# Altium schematic symbol library KwantLib.SchLib: 323 symbols (part 3 of 3)
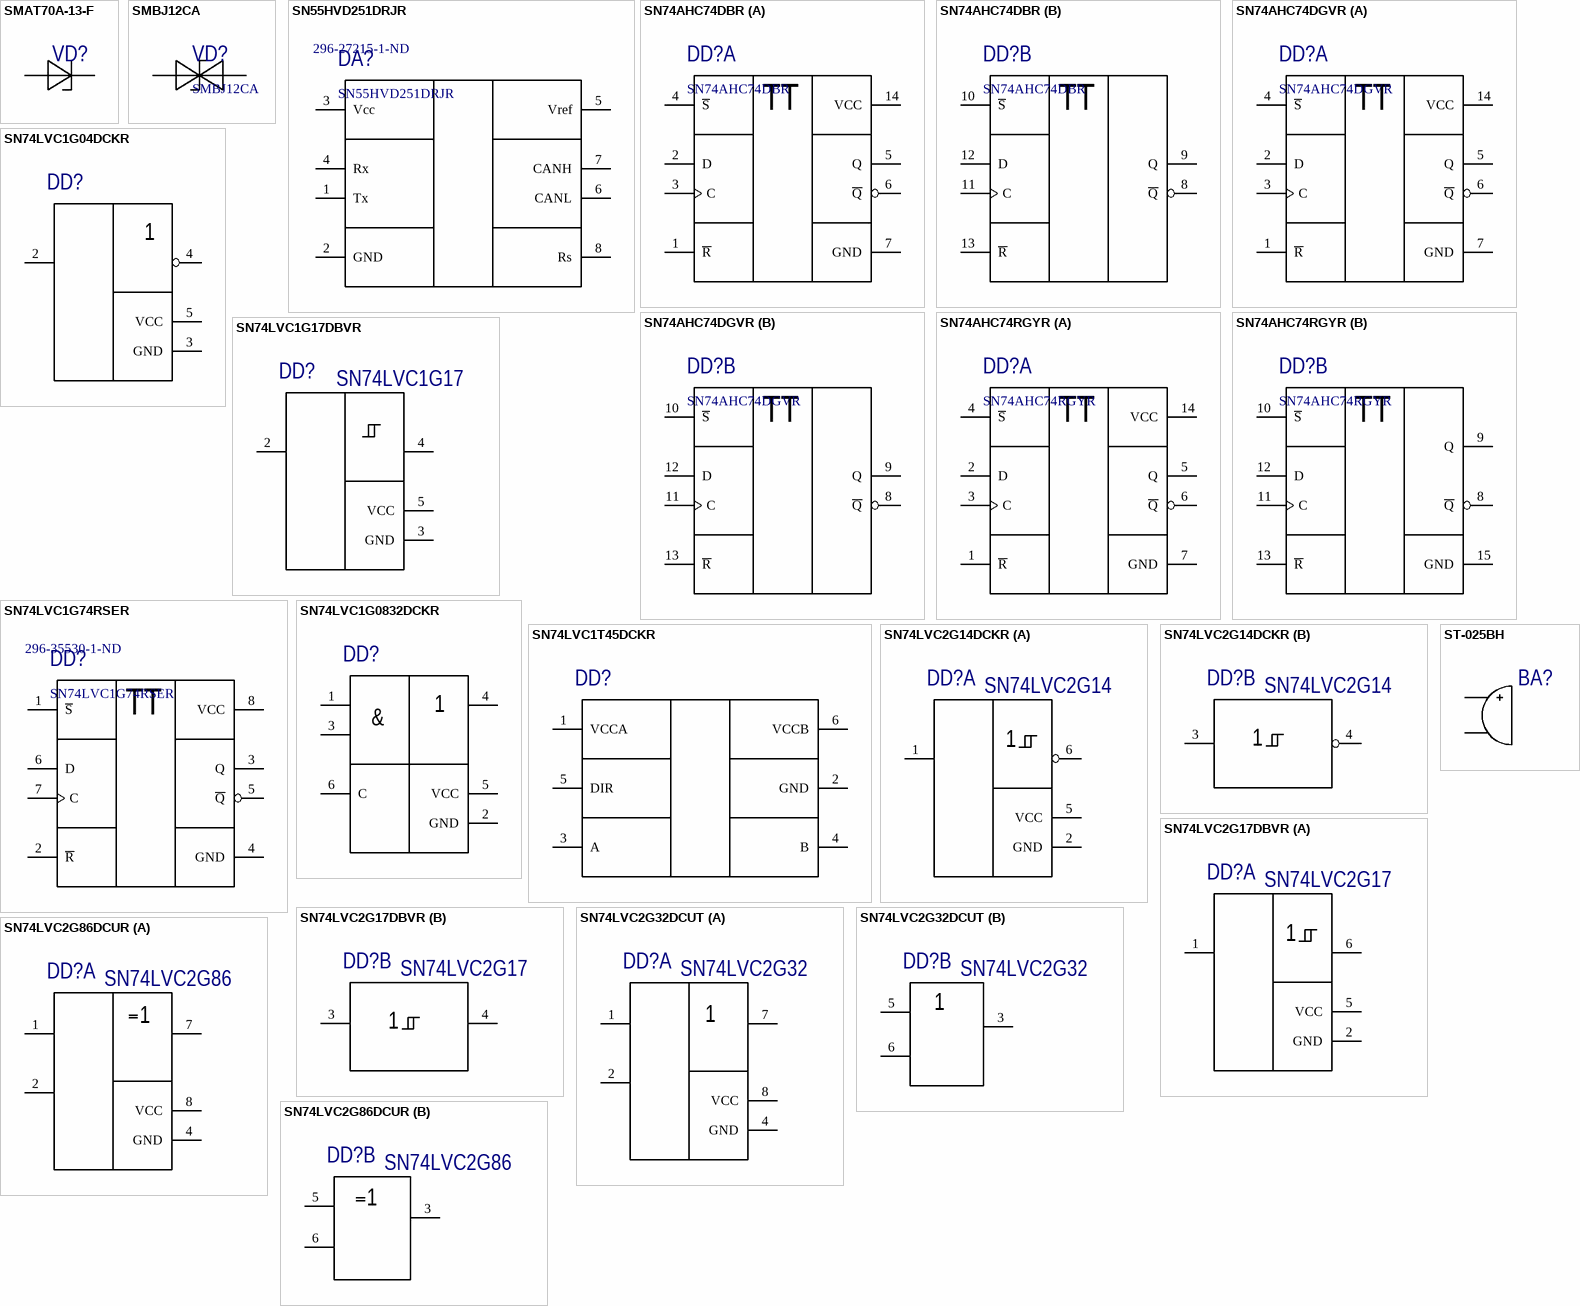
[diagram p18: symbols SMAT70A-13-F to ST-025BH]

## SN74LVC1G04DCKR
designator DD?  (value not drawn)
Invertor Gate; PartNo: SN74LVC1G04DCKR; Supplier 1: Digi-Key; Supplier Part Number 1: 296-11600-1-ND
footprint SOT65P210X110-5N (SOT23, 5-Leads, Body 2.00x2.10mm, Pitch 0.65mm, IPC Medium Density)
pins: 2 A, 3 GND (power), 4 Y, 5 VCC
text: 1

## SN74LVC1G17DBVR
designator DD?, comment SN74LVC1G17
Single Schmitt-Trigger Buffer; PartNo: SN74LVC1G17DBVR; Supplier 1: Digi-Key; Supplier Part Number 1: 296-11933-1-ND
footprint SOT95P280X145-5N (SOT23, 5-Leads, Body 2.90x2.80mm, Pitch 0.95mm, IPC Medium Density)
pins: 2 A, 3 GND (power), 4 Y, 5 VCC

## SN74LVC1G74RSER
designator DD?  Supplier Part Number 1: 296-35530-1-ND
Positive-Edge-Triggered D-Type Flip-Flop; PartNo: *; Supplier 1: Digi-Key
footprint QFN50P150X150X60-8N (QFN, 8-Leads, Body 1.50x1.50mm, Pitch 0.50mm, IPC Medium Density)
pins: 1 ~{S}, 2 ~{R}, 3 Q, 4 GND, 5 ~{Q}, 6 D, 7 C, 8 VCC
text: TT

## SN74LVC1G0832DCKR
designator DD?  (value not drawn)
Single 3-Input Positive AND-OR Gate; PartNo: SN74LVC1G0832DCKR; Supplier 1: Digi-Key; Supplier Part Number 1: 296-18754-1-ND
footprint SOT65P210X100-6N (SOT323, 6-Leads, Body 2.00x2.10mm, Pitch 0.65mm, IPC Medium Density)
pins: 1 A, 2 GND, 3 B, 4 Y, 5 VCC, 6 C
text: &

## SN74LVC1T45DCKR
designator DD?  (value not drawn)
1-bit bidirectional level shifter; PartNo: SN74LVC1T45DCKR; Supplier 1: Digi-Key; Supplier Part Number 1: 296-16844-1-ND
footprint SOT65P210X100-6N (SOT323, 6-Leads, Body 2.00x2.10mm, Pitch 0.65mm, IPC Medium Density)
pins: 1 VCCA, 2 GND, 3 A, 4 B, 5 DIR, 6 VCCB

## SN74LVC2G14DCKR
designator DD?, comment SN74LVC2G14
Dual Inverted Schmitt-Trigger Buffer; PartNo: SN74LVC2G14DCKR; Supplier 1: Digi-Key; Supplier Part Number 1: 296-13011-1-ND
footprint SOT65P210X100-6N (SC70-6, SOT323, 6-Leads, Body 2.00x2.10mm, Pitch 0.65mm, IPC Medium Density)
part A pins: 1 A, 2 GND (power), 5 VCC, 6 Y
part B pins: 3 A, 4 Y

## SN74LVC2G17DBVR
designator DD?, comment SN74LVC2G17
Dual Schmitt-Trigger Buffer; PartNo: SN74LVC2G17DBVR; Supplier 1: Digi-Key; Supplier Part Number 1: 296-13012-1-ND
footprint SOT95P280X145-6N (SOT23, 6-Leads, Body 2.92x2.80mm, Pitch 0.95mm, IPC Medium Density)
part A pins: 1 A, 2 GND (power), 5 VCC, 6 Y
part B pins: 3 A, 4 Y

## SN74LVC2G32DCUT
designator DD?, comment SN74LVC2G32
Dual 2-Input OR Gate; PartNo: SN74LVC2G32DCUT; Supplier 1: Digi-Key; Supplier Part Number 1: 296-32324-1-ND
footprint TSSOP50P310X90-8N (TSSOP, 8-Leads, Body 2.00x2.30mm, Pitch 0.50mm, IPC Medium Density)
part A pins: 1 A, 2 B, 4 GND (power), 7, 8 VCC (power)
part B pins: 3 Y, 5 A, 6 B

## SN74LVC2G86DCUR
designator DD?, comment SN74LVC2G86
Dual 2-Input XOR Gate; PartNo: SN74LVC2G86DCUR; Supplier 1: Digi-Key; Supplier Part Number 1: 296-13275-1-ND
footprint TSSOP50P310X90-8N (TSSOP, 8-Leads, Body 2.00x2.30mm, Pitch 0.50mm, IPC Medium Density)
part A pins: 1 A, 2 B, 4 GND (power), 7, 8 VCC (power)
part B pins: 3 Y, 5 A, 6 B

## ST-025BH
designator BA?  (value not drawn)
AUDIO MAGNETIC XDCR 2-4V SMD; Manufacturer: Soberton; Frequency: 2.7kHz; Operating Supply Current: 100mA; Washable: No; Supplier 1: Digi-Key; Manufacturer Part Number: ST-025BH; Stock 1: 6053; Pricing 1: 1=2.2, 10=1.746, 25=1.5892, 50=1.4876, 100=1.386, 250=1.2659, 500=1.1735, 1000=1.155 (USD); Mount: Surface Mount; Min Operating Temperature: -30°C; Max Operating Temperature: 85°C; Package Quantity: 1; Packaging: Cut Tape; Termination: Solder; Sensing Method: Magnetic; Length: 7.5mm; Height: 2.5mm; Width: 7.5mm; ComponentLink1URL: http://cirlw3yrzg4afc1x47lv2k18.wpengine.netdna-cdn.com/wp-content/uploads/2016/10/ST-025BH-Rev-A_2017.pdf?src-supplier=Digi-Key; ComponentLink1Description: http://cirlw3yrzg4afc1x47lv2k18.wpengine.netdna-cdn.com/wp-content/uploads/2016/10/ST-025BH-Rev-A_2017.pdf?src-supplier=Digi-Key; Supplier Part Number 1: 433-1087-1-ND
footprint ST-025BH (Sobertonic Magnetic Buzzer)
pins: 1, 2

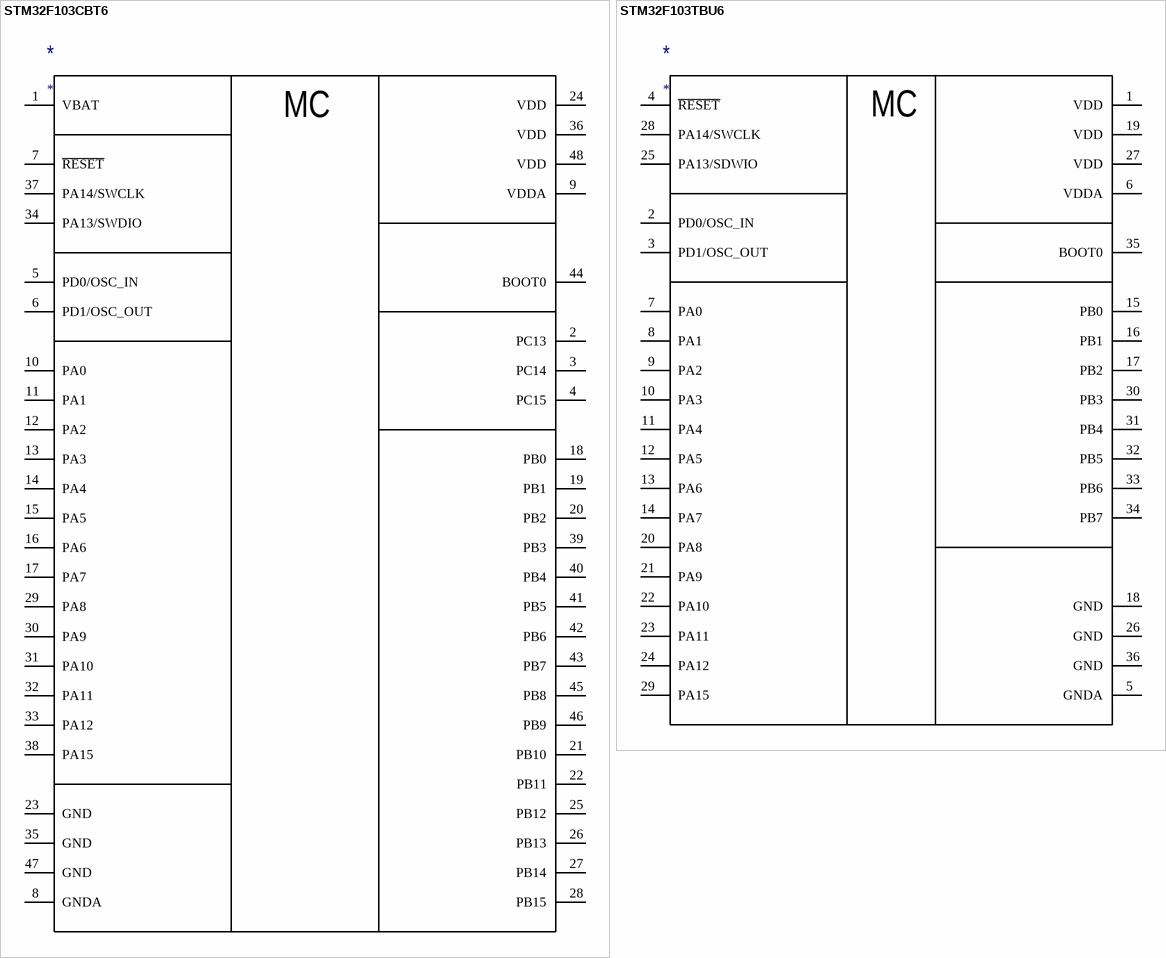
[diagram p10: symbols STM32F103CBT6 to STM32F103TBU6]

## STM32F103CBT6
designator *
pins: 1 VBAT, 2 PC13, 3 PC14, 4 PC15, 5 PD0/OSC_IN, 6 PD1/OSC_OUT, 7 ~{RESET}, 8 GNDA, 9 VDDA, 10 PA0, 11 PA1, 12 PA2, 13 PA3, 14 PA4, 15 PA5, 16 PA6, 17 PA7, 18 PB0, 19 PB1, 20 PB2, 21 PB10, 22 PB11, 23 GND, 24 VDD, 25 PB12, 26 PB13, 27 PB14, 28 PB15, 29 PA8, 30 PA9, 31 PA10, 32 PA11, 33 PA12, 34 PA13/SWDIO, 35 GND, 36 VDD, 37 PA14/SWCLK, 38 PA15, 39 PB3, 40 PB4, 41 PB5, 42 PB6, 43 PB7, 44 BOOT0, 45 PB8, 46 PB9, 47 GND, 48 VDD
text: MC

## STM32F103TBU6
designator *
pins: 1 VDD, 2 PD0/OSC_IN, 3 PD1/OSC_OUT, 4 ~{RESET}, 5 GNDA, 6 VDDA, 7 PA0, 8 PA1, 9 PA2, 10 PA3, 11 PA4, 12 PA5, 13 PA6, 14 PA7, 15 PB0, 16 PB1, 17 PB2, 18 GND, 19 VDD, 20 PA8, 21 PA9, 22 PA10, 23 PA11, 24 PA12, 25 PA13/SDWIO, 26 GND, 27 VDD, 28 PA14/SWCLK, 29 PA15, 30 PB3, 31 PB4, 32 PB5, 33 PB6, 34 PB7, 35 BOOT0, 36 GND
text: MC

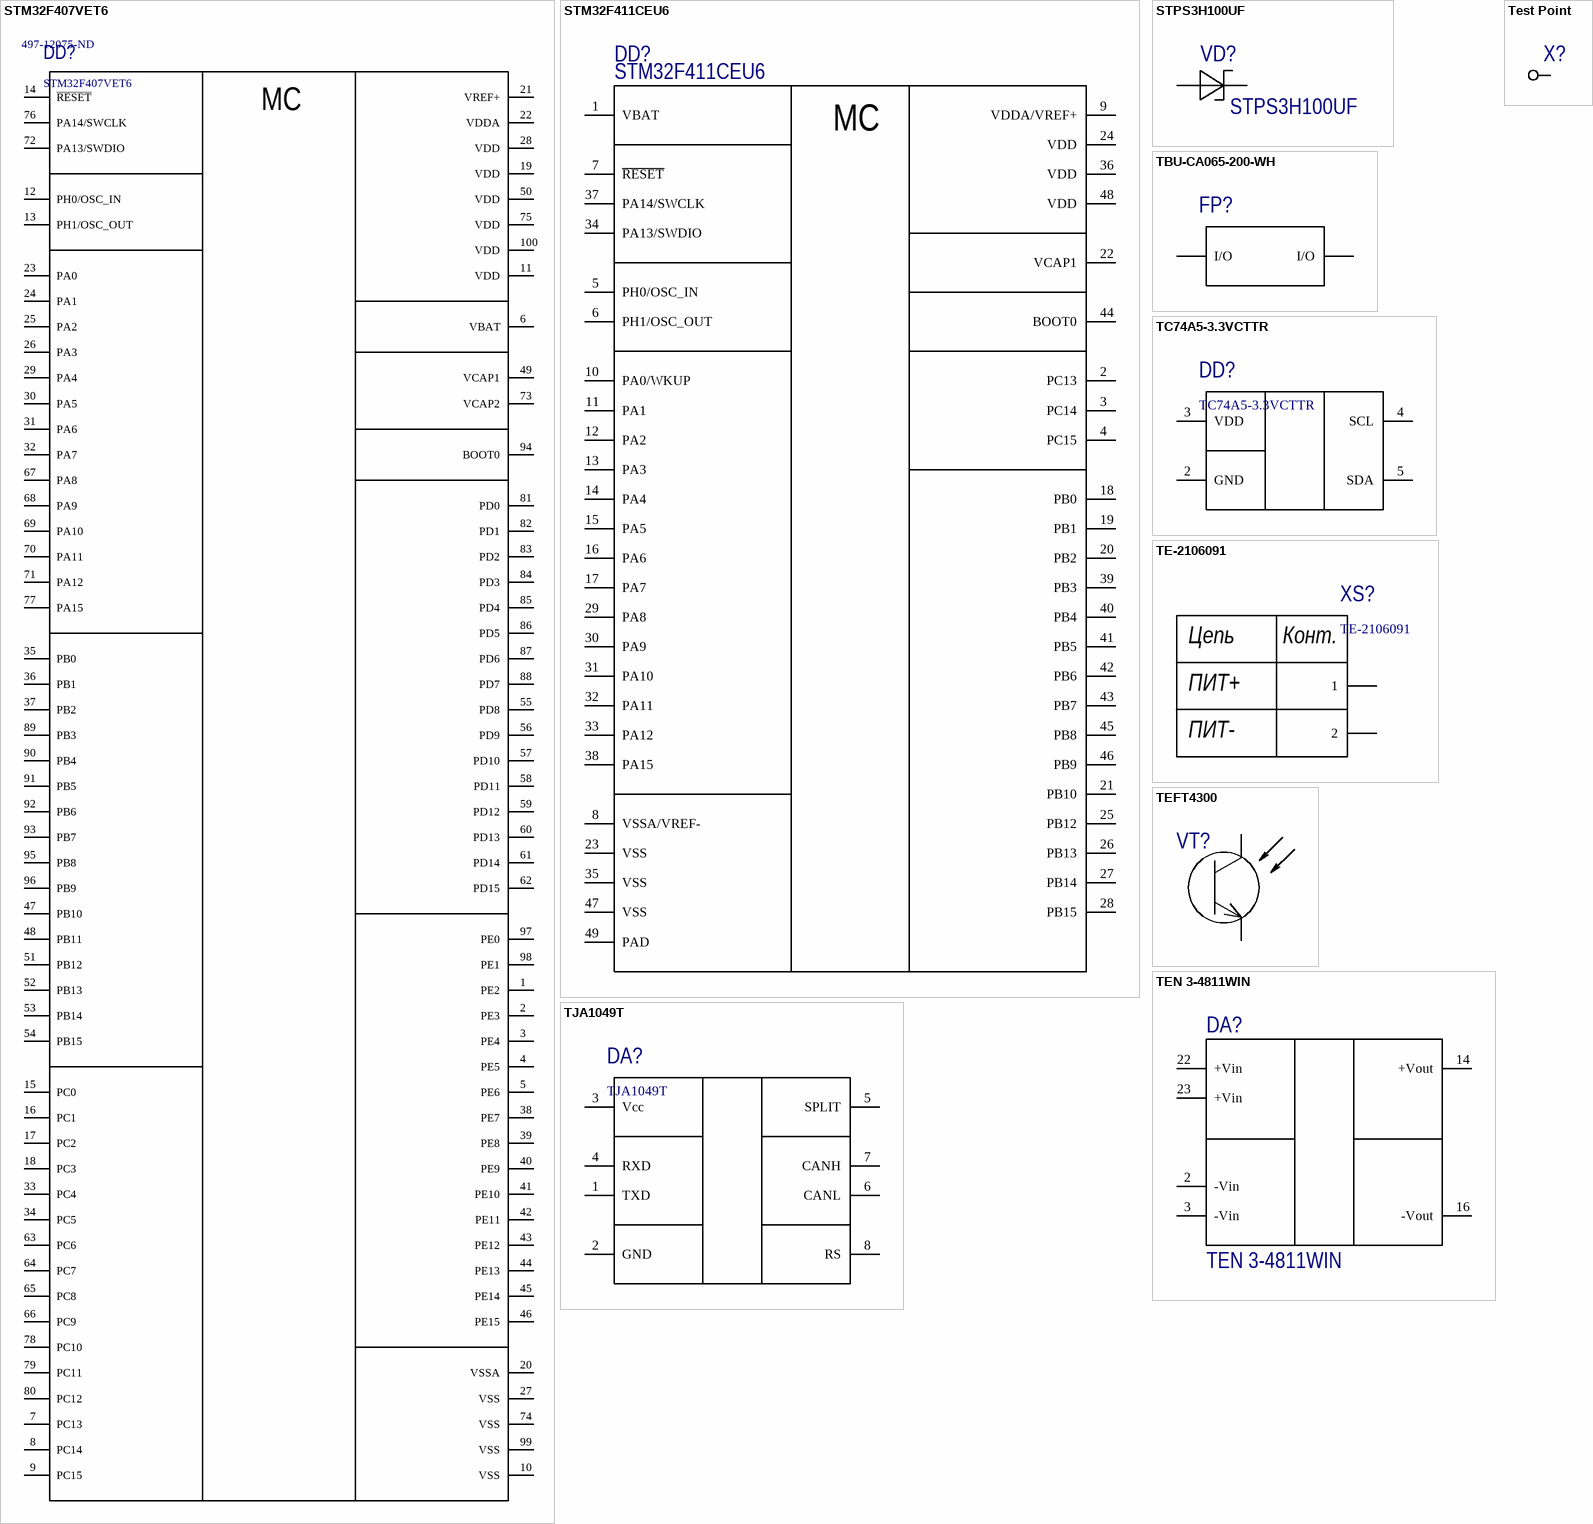
[diagram p11: symbols STM32F407VET6 to TJA1049T]

## STM32F407VET6
designator DD?  Supplier Part Number 1: 497-12075-ND
Cortex-M4F microcontroller; PartNo: *; Supplier 1: Digi-Key
footprint TSQFP50P1600X1600X160-100N (TSQFP, 100-Leads, Body 14.00x14.00mm, Pitch 0.50mm, IPC Medium Density)
pins: 1 PE2, 2 PE3, 3 PE4, 4 PE5, 5 PE6, 6 VBAT, 7 PC13, 8 PC14, 9 PC15, 10 VSS, 11 VDD, 12 PH0/OSC_IN, 13 PH1/OSC_OUT, 14 ~{RESET}, 15 PC0, 16 PC1, 17 PC2, 18 PC3, 19 VDD, 20 VSSA, 21 VREF+, 22 VDDA, 23 PA0, 24 PA1, 25 PA2, 26 PA3, 27 VSS, 28 VDD, 29 PA4, 30 PA5, 31 PA6, 32 PA7, 33 PC4, 34 PC5, 35 PB0, 36 PB1, 37 PB2, 38 PE7, 39 PE8, 40 PE9, 41 PE10, 42 PE11, 43 PE12, 44 PE13, 45 PE14, 46 PE15, 47 PB10, 48 PB11, 49 VCAP1, 50 VDD, 51 PB12, 52 PB13, 53 PB14, 54 PB15, 55 PD8, 56 PD9, 57 PD10, 58 PD11, 59 PD12, 60 PD13, 61 PD14, 62 PD15, 63 PC6, 64 PC7, 65 PC8, 66 PC9, 67 PA8, 68 PA9, 69 PA10, 70 PA11, 71 PA12, 72 PA13/SWDIO, 73 VCAP2, 74 VSS, 75 VDD, 76 PA14/SWCLK, 77 PA15, 78 PC10, 79 PC11, 80 PC12, 81 PD0, 82 PD1, 83 PD2, 84 PD3, 85 PD4, 86 PD5, 87 PD6, 88 PD7, 89 PB3, 90 PB4, 91 PB5, 92 PB6, 93 PB7, 94 BOOT0, 95 PB8, 96 PB9, 97 PE0, 98 PE1, 99 VSS, 100 VDD
text: MC

## STM32F411CEU6
designator DD?
PartNo: *
footprint QFN50P690X690X60_HS-49N (QFN, 48-Leads, Body 6.90x6.90mm, Pitch 0.50mm, Thermal Pad 5.60x5.60mm, IPC Medium Density)
pins: 1 VBAT, 2 PC13, 3 PC14, 4 PC15, 5 PH0/OSC_IN, 6 PH1/OSC_OUT, 7 ~{RESET}, 8 VSSA/VREF-, 9 VDDA/VREF+, 10 PA0/WKUP, 11 PA1, 12 PA2, 13 PA3, 14 PA4, 15 PA5, 16 PA6, 17 PA7, 18 PB0, 19 PB1, 20 PB2, 21 PB10, 22 VCAP1, 23 VSS, 24 VDD, 25 PB12, 26 PB13, 27 PB14, 28 PB15, 29 PA8, 30 PA9, 31 PA10, 32 PA11, 33 PA12, 34 PA13/SWDIO, 35 VSS, 36 VDD, 37 PA14/SWCLK, 38 PA15, 39 PB3, 40 PB4, 41 PB5, 42 PB6, 43 PB7, 44 BOOT0, 45 PB8, 46 PB9, 47 VSS, 48 VDD, 49 PAD
text: MC

## STPS3H100UF
designator VD?
Диод Шоттки, 100 В, 3 А; Supplier 1: Digi-Key; PartNo: STPS3H100UF; Supplier Part Number 1: 497-10968-1-ND
footprint SODFL535X110-2N (SODFL, 2-Leads, Body 3.63x5.35mm, IPC Medium Density)
pins: 1 K, 2 A

## TBU-CA065-200-WH
designator FP?  (value not drawn)
High-Speed Protectors; PartNo: TBU-CA065-200-WH; Supplier 1: Digi-Key; Supplier Part Number 1: TBU-CA065-200-WHCT-ND
footprint TBU-CA
pins: 1 I/O, 2 I/O

## TC74A5-3.3VCTTR
designator DD?
Digital Temperature Sensor; PartNo: TC74A5-3.3VCTTR; Supplier 1: Digi-Key; Supplier Part Number 1: TC74A5-3.3VCTCT-ND
footprint SOT95P280X145-5N (SOT23, 5-Leads, Body 2.90x2.80mm, Pitch 0.95mm, IPC Medium Density)
pins: 2 GND, 3 VDD, 4 SCL, 5 SDA

## TE-2106091
designator XS?
Разъем питания внутренний; PartNo: TE-2106091; Supplier 1: Digi-Key; Supplier Part Number 1: A99870CT-ND
footprint TE-2106091-1 (2-pin thru board inverted SMT Connector); pin to pad 1>2 2>1
pins: 1, 2
text: Цепь; Конт.; ПИТ+; ПИТ-

## TEFT4300
designator VT?, comment BC847BLT1G  (value not drawn)
Phototransistor NPN; PartNo: BC847BLT1G; Supplier 1: Digi-Key; Supplier Part Number 1: BC847BLT1GOSCT-ND
footprint T1 (3 mm) 2 pin 3mm up (LED Throuh hole, 3mm dia)
pins: 1, 2

## TEN 3-4811WIN
designator DA?
TRACOPOWER 3W Isolated DC-DC Converter, Vin 18  75 V dc, Vout 5V dc, I/O isolation 1500V dc; Min Input Voltage: 18V; Isolation Voltage: 1.5kV; Output Current: 600mA; Number of Outputs: 1; Efficiency: 80%; Max Input Voltage: 75V; Nominal Input Voltage: 48V; Supplier 1: Digi-Key; Manufacturer: Traco Power; Manufacturer Part Number: TEN3-4811WIN; Stock 1: 250; Pricing 1: 1=14.8, 10=13.146, 25=12.944, 50=12.5396, 100=11.326, 250=11.1238, 500=10.9215 (USD); Mount: Through Hole; Weight: 12.8g; Min Operating Temperature: -40°C; Max Operating Temperature: 85°C; Output Voltage: 5V; Max Output Power: 3W; Voltage - Output 1: 5V; Current - Output 1: 600mA; Power Rating: 3W; Length: 31.8mm; Height: 10.2mm; Depth: 10.2mm; Width: 20.3mm; REACH SVHC: No SVHC; Supplier Part Number 1: 1951-2167-ND
footprint TEN 3WIN Single (Traco Power TEN 3WIN Module, Single output)
pins: 2 -Vin, 3 -Vin, 14 +Vout, 16 -Vout, 22 +Vin, 23 +Vin

## Test Point
designator X?  (value not drawn)
Keystone miniature test point
footprint KeyStone-5000-Red
footprint KeyStone-5001-Black
footprint KeyStone-5003-Orange
footprint KeyStone-5116-Green
pins: 1

## TJA1049T
designator DA?
CAN tranceiver; PartNo: TJA1049T; Supplier 1: Digi-Key; Supplier Part Number 1: 568-8682-1-ND
pins: 1 TXD, 2 GND, 3 Vcc, 4 RXD, 5 SPLIT, 6 CANL, 7 CANH, 8 RS

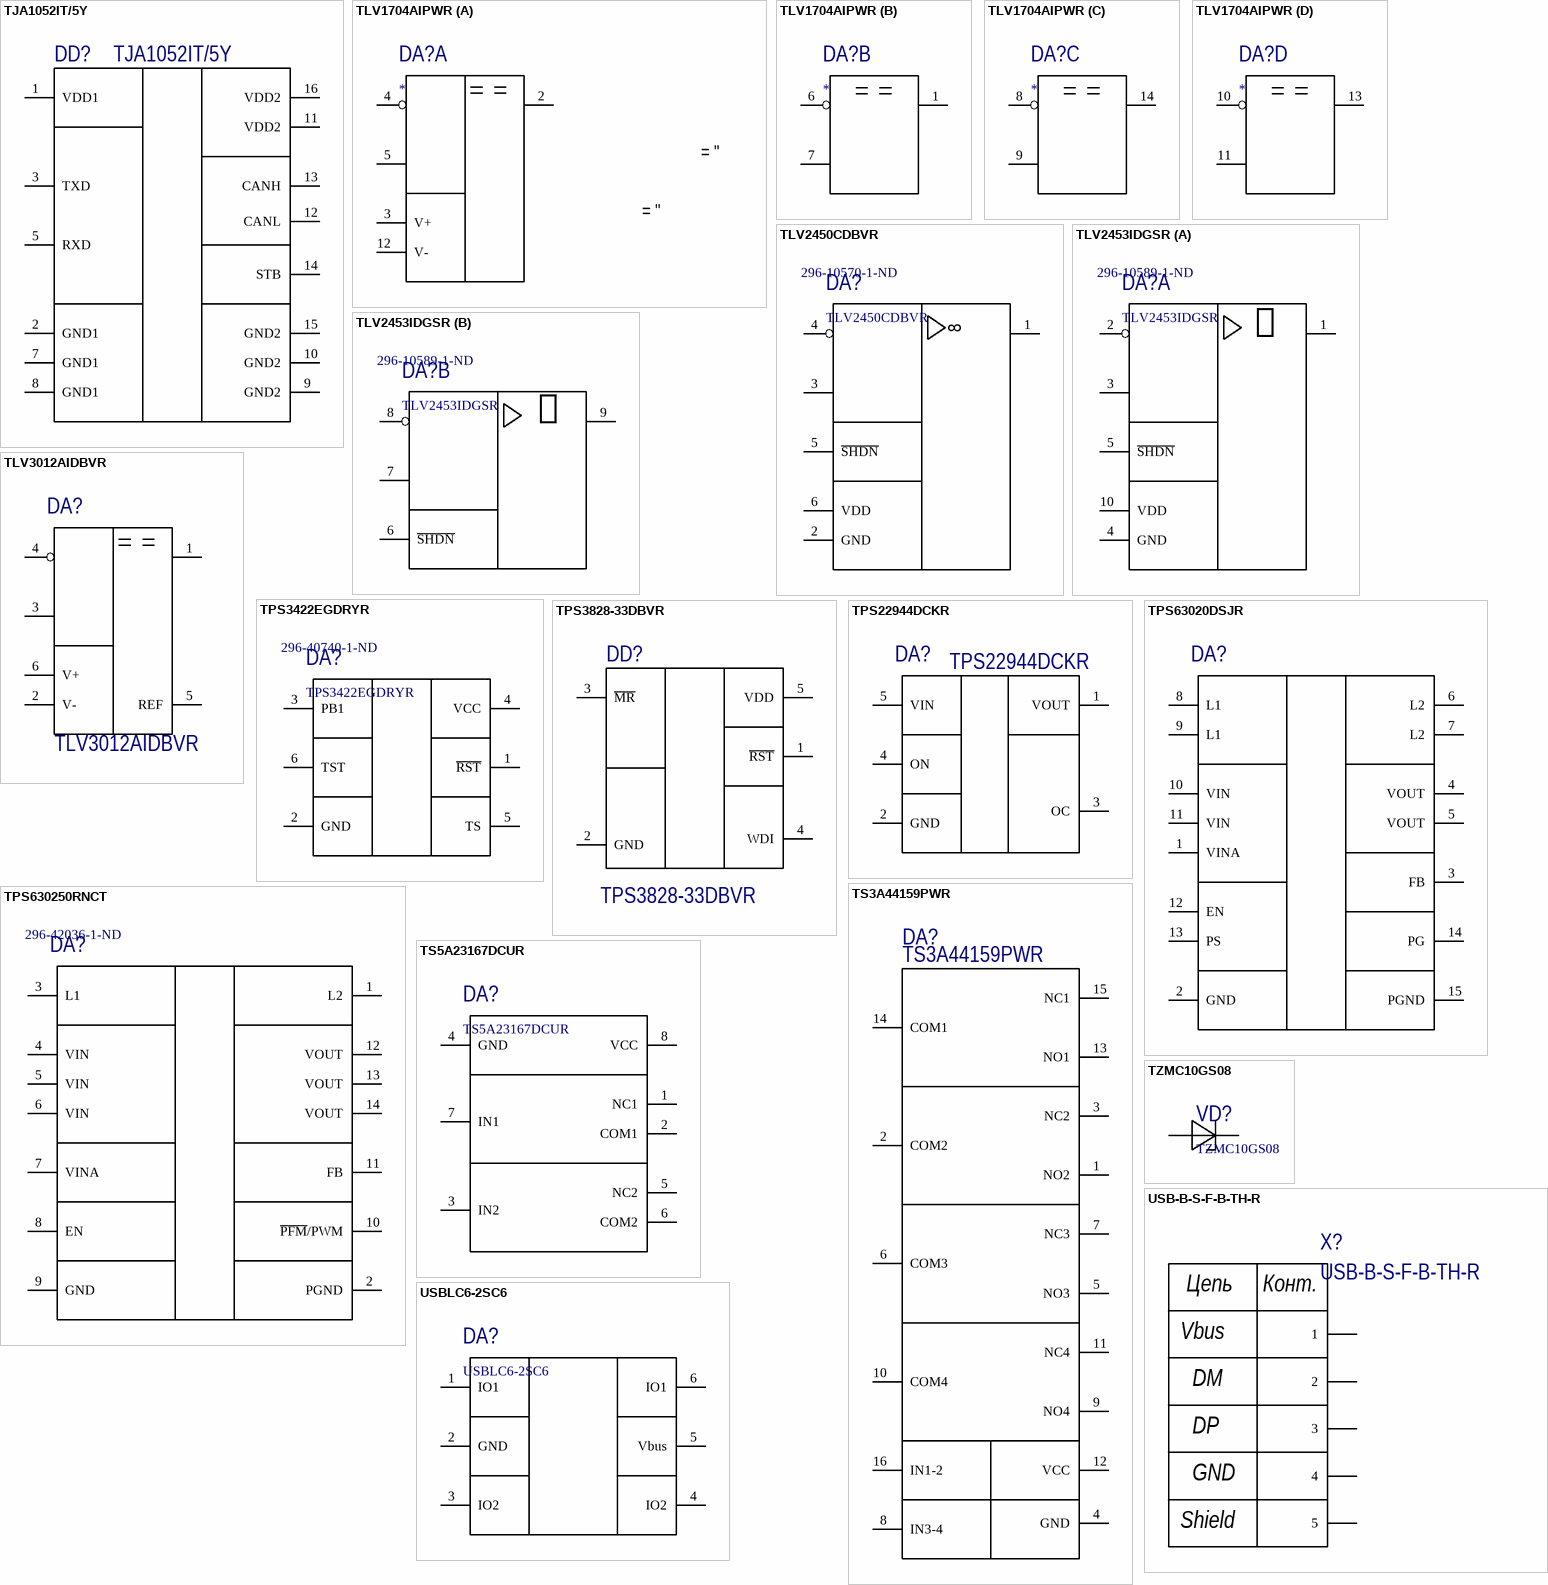
[diagram p12: symbols TJA1052IT/5Y to USBLC6-2SC6]

## TJA1052IT/5Y
designator DD?
Isolated CAN tranceiver; PartNo: TJA1052IT/5Y; Supplier 1: Digi-Key; Supplier Part Number 1: 568-11942-1-ND
footprint SOIC127P1030X265-16N_CAN (SOIC, 16-Leads, Body 10.30x7.50mm, Pitch 1.27mm, IPC Medium Density)
pins: 1 VDD1 (power), 2 GND1 (power), 3 TXD, 5 RXD, 7 GND1 (power), 8 GND1 (power), 9 GND2 (power), 10 GND2 (power), 11 VDD2 (power), 12 CANL, 13 CANH, 14 STB, 15 GND2 (power), 16 VDD2 (power)

## TLV1704AIPWR
designator DA?
Компаратор, 4 канала, микропотребляющий; PartNo: *; Supplier 1: Digi-Key; Supplier Part Number 1: 296-38432-1-ND
footprint TSOP65P640X120-14N (TSOP, 14-Leads, Body 5.00x4.40mm, Pitch 0.65mm, IPC Medium Density)
part A pins: 2 1OUT, 3 V+, 4 1IN-, 5 1IN+, 12 V-
part B pins: 1 2OUT, 6 2IN-, 7 2IN+
part C pins: 8 3IN-, 9 3IN+, 14 3OUT
part D pins: 10 4IN-, 11 4IN+, 13 4OUT

## TLV2450CDBVR
designator DA?  Supplier Part Number 1: 296-10570-1-ND
RtR micropower OpAmp; PartNo: *; Supplier 1: Digi-Key
footprint SOT95P280X145-6N (SOT23, 6-Leads, Body 2.90x2.80mm, Pitch 0.95mm, IPC Medium Density)
pins: 1 OUT, 2 GND, 3 IN+, 4 IN-, 5 ~{SHDN}, 6 VDD
text: 8

## TLV2453IDGSR
designator DA?  Supplier Part Number 1: 296-10589-1-ND
RtR micropower Dual Opamp with Shutdown; PartNo: TLV2453IDGSR; Supplier 1: Digi-Key
footprint TSSOP50P490X110-10N (TSSOP, 10-Leads, Body 3.00x3.00mm, Pitch 0.50mm, IPC Medium Density)
part A pins: 1 OUT, 2 IN-, 3 IN+, 4 GND, 5 ~{SHDN}, 10 VDD
part B pins: 6 ~{SHDN}, 7 IN+, 8 IN-, 9 OUT
part A text: 
part B text: 

## TLV3012AIDBVR
designator DA?
Компаратор, 1 канал, микропотребляющий; РКД Наименование: TLV3012AIDBVR компаратор; PartNo: *; Supplier 1: Digi-Key
footprint SOT95P280X145-6N (SOT23, 6-Leads, Body 2.92x2.80mm, Pitch 0.95mm, IPC Medium Density)
pins: 1 OUT, 2 V-, 3 IN+, 4 IN-, 5 REF, 6 V+

## TPS3422EGDRYR
designator DA?  Supplier Part Number 1: 296-40740-1-ND
Push-button controller; PartNo: *; Supplier 1: Digi-Key
footprint PSON50P100X60-6N (PSON, 6-Leads, Body 1.45x1.00mm, Pitch 0.50mm, IPC Medium Density)
pins: 1 ~{RST}, 2 GND, 3 PB1, 4 VCC, 5 TS, 6 TST

## TPS3828-33DBVR
designator DD?
Voltage monitor with Watchdog; Supplier 1: Digi-Key
footprint SOT95P280X145-5N (SOT23, 5-Leads, Body 2.90x2.80mm, Pitch 0.95mm, IPC Medium Density)
pins: 1 ~{RST}, 2 GND, 3 ~{MR}, 4 WDI, 5 VDD

## TPS22944DCKR
designator DA?
Current limited load switch; PartNo: TPS22944DCKR; Supplier 1: Digi-Key; Supplier Part Number 1: 296-25218-1-ND
footprint SOT65P210X110-5N (SC70-5, SOT23, 5-Leads, Body 2.00x2.10mm, Pitch 0.65mm, IPC Medium Density)
pins: 1 VOUT, 2 GND, 3 OC, 4 ON, 5 VIN

## TPS63020DSJR
designator DA?  (value not drawn)
Buck-Boost converter; PartNo: TPS63020DSJR; Supplier 1: Digi-Key; Supplier Part Number 1: 296-36491-1-ND
footprint SON50P300X100_HS-15N (SON, 14-Leads, Body 4.00x3.00mm, Pitch 0.50mm, Thermal Pad 2.85x1.44mm, IPC Medium Density)
pins: 1 VINA, 2 GND, 3 FB, 4 VOUT, 5 VOUT, 6 L2, 7 L2, 8 L1, 9 L1, 10 VIN, 11 VIN, 12 EN, 13 PS, 14 PG, 15 PGND

## TPS630250RNCT
designator DA?  Supplier Part Number 1: 296-42036-1-ND  (hidden comment: *)
Buck-Boost converter; PartNo: *; Supplier 1: Digi-Key
footprint VQFN-HR
pins: 1 L2, 2 PGND, 3 L1, 4 VIN, 5 VIN, 6 VIN, 7 VINA, 8 EN, 9 GND, 10 ~{PFM}/PWM, 11 FB, 12 VOUT, 13 VOUT, 14 VOUT

## TS3A44159PWR
designator DA?
Quad SPDT switch 4 channel 2:1 Multiplexer; PartNo: TS3A44159PWR; Supplier 1: Digi-Key; Supplier Part Number 1: 296-21915-1-ND
footprint TSOP65P640X120-16N (TSOP, 16-Leads, Body 5,00x4,40mm, Pitch 0,65mm, IPC Medium Density)
pins: 1 NO2, 2 COM2, 3 NC2, 4 GND, 5 NO3, 6 COM3, 7 NC3, 8 IN3-4, 9 NO4, 10 COM4, 11 NC4, 12 VCC, 13 NO1, 14 COM1, 15 NC1, 16 IN1-2

## TS5A23167DCUR
designator DA?
Dual SPST switch; PartNo: TS5A23167DCUR; Supplier 1: Digi-Key; Supplier Part Number 1: 296-17985-1-ND
footprint TSSOP50P310X90-8N (TSSOP, 8-Leads, Body 2.00x2.30mm, Pitch 0.50mm, IPC Medium Density)
pins: 1 NC1, 2 COM1, 3 IN2, 4 GND (power), 5 NC2, 6 COM2, 7 IN1, 8 VCC (power)

## TZMC10GS08
designator VD?
Small signal Zener Diode; Voltage: 10V; Current: 5mA; PartNo: TZMC10GS08; Supplier 1: Digi-Key; Supplier Part Number 1: TZMC10GS08GICT-ND
footprint SOD-80 (MELF Diode, 2-Leads, Body 3.45x1.40mm, IPC Medium Density)
pins: 1 C, 2 A

## USB-B-S-F-B-TH-R
designator X?
USB-B Throw Hole; PartNo: USB-B-S-F-B-TH-R; Supplier 1: Digi-Key; Supplier Part Number 1: SAM10867-ND
footprint Samtech USB-B
pins: 1, 2, 3, 4, 5
text: Цепь; Конт.; Vbus; DM; DP; GND; Shield

## USBLC6-2SC6
designator DA?
USB protection IC; Supplier 1: Digi-Key; Supplier Part Number 1: 497-5235-1-ND; PartNo: USBLC6-2SC6
footprint SOT95P280X145-6N (SOT23, 6-Leads, Body 2.90x2.80mm, Pitch 0.95mm, IPC Medium Density)
pins: 1 IO1, 2 GND, 3 IO2, 4 IO2, 5 Vbus, 6 IO1

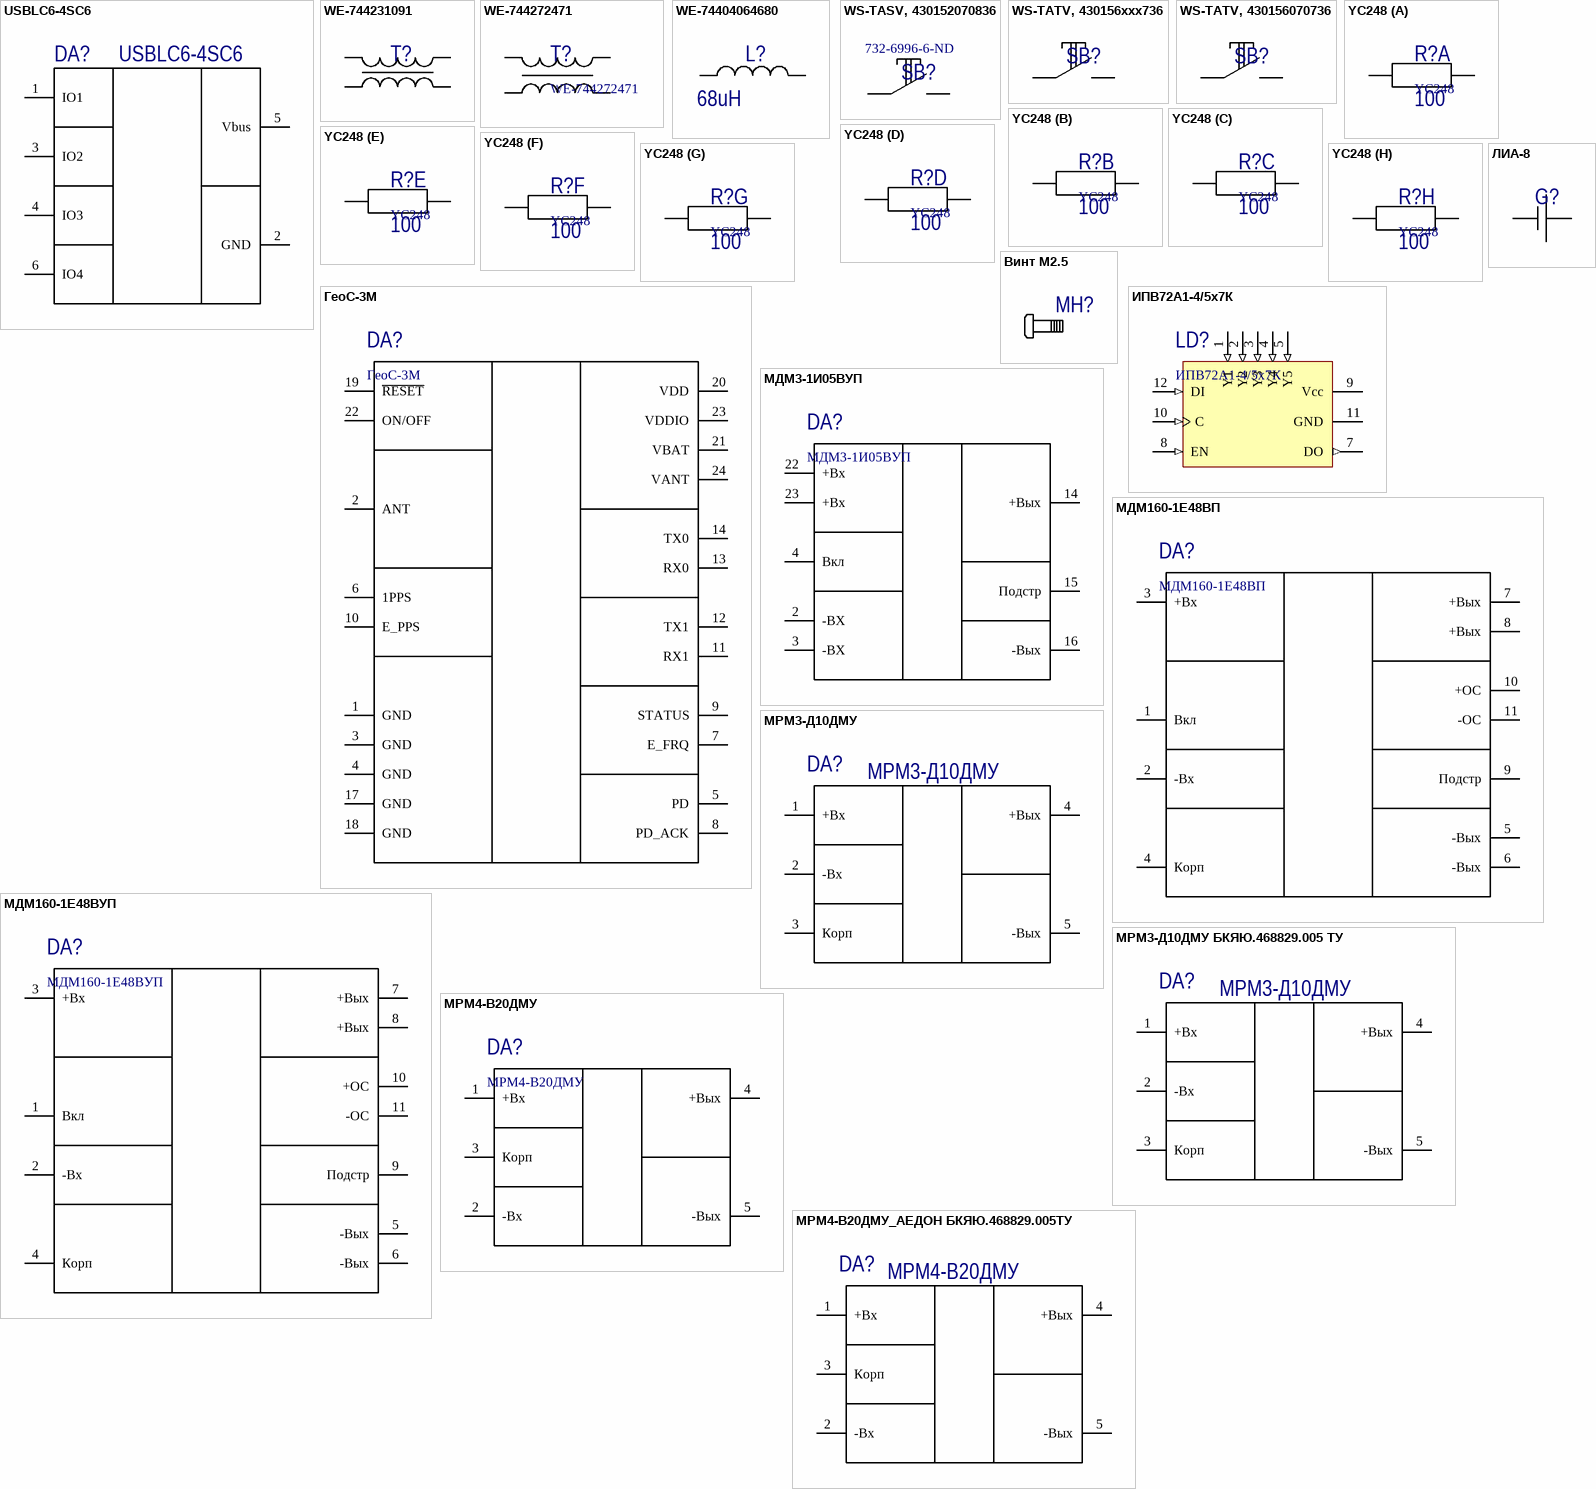
[diagram p13: symbols USBLC6-4SC6 to МРМ4-В20ДМУ_АЕДОН БКЯЮ.468829.005ТУ]

## USBLC6-4SC6
designator DA?
USB protection IC; Supplier 1: Digi-Key; Supplier Part Number 1: 497-4492-1-ND; PartNo: USBLC6-4SC6
footprint SOT95P280X145-6N (SOT23, 6-Leads, Body 2.90x2.80mm, Pitch 0.95mm, IPC Medium Density)
pins: 1 IO1, 2 GND, 3 IO2, 4 IO3, 5 Vbus, 6 IO4

## WE-744231091
designator T?  (value not drawn)
Фильтр USB; PartNo: 744231091; Digikey: *; Supplier 1: Digi-Key; Supplier Part Number 1: 732-3198-1-ND
footprint WE-744231091 (Wurth Common mode filter, 0805)
pins: 1, 2, 3, 4

## WE-744272471
designator T?
Common Mode Choke; Current: 1.6A; Value: 2x470uH; PartNo: 744272471; Supplier 1: Digi-Key; Supplier Part Number 1: 732-1492-1-ND
footprint WE-SL5 (WE-SL5 SMD Common Mode Line Filter)
pins: 1, 2, 3, 4

## WE-74404064680
designator L?  value 68uH  (hidden comment: WE-74404064680)
SMD Power Inductor; Current: 1.0A; PartNo: *; Supplier 1: Digi-Key; Supplier Part Number 1: 732-5557-1-ND
footprint WE-LQS (WE-LQS SMD Power Inductor)
pins: 1, 2

## WS-TASV, 430152070836
designator SB?, comment Supplier Part Number 1: 732-6996-6-ND  (hidden comment: 430152070836)
WS-TASV 6x6 mm SMD; Manufacturer: Wurth Elektronik; PartNo: 430152070836; ComponentLink1Description: Manufacturer; ComponentLink1URL: http://www.we-online.de; Created by: Baojun Chen; Created Date: Dec.2015; ComponentLink2Description: Datasheet; ComponentLink2URL: http://katalog.we-online.de/em/datasheet/4301x2xxx8x6.pdf; Supplier 1: Digi-Key
footprint 4301x20708x6 (6*6mm vertical type, SMD, height 7.0mm, white actuator, 260gf, T&R)
pins: 1, 2

## WS-TATV, 430156xxx736
designator SB?, comment 430156xxx736  (value not drawn)
WS-TATV 6x6 mm THT; Manufacturer: Wurth Elektronik; PartNo: 430156xxx736; ComponentLink1Description: Manufacturer; ComponentLink1URL: http://www.we-online.de; Created by: Baojun Chen; Created Date: Dec.2015; ComponentLink2Description: Datasheet; ComponentLink2URL: http://katalog.we-online.de/em/datasheet/4301x6xxx7x6.pdf
footprint WS-TATV, 430156095736 (6*6mm vertical type, THT, height 9.5mm, white actuator, 360gf, Bulk)
footprint WS-TATV, 430156043736 (6*6mm vertical type, THT, height 4.3mm, white actuator, 360gf, Bulk)
pins: 1, 2

## WS-TATV, 430156070736
designator SB?, comment 430156070736  (value not drawn)
WS-TATV 6x6 mm THT; Manufacturer: Wurth Elektronik; PartNo: 430156070736; ComponentLink1Description: Manufacturer; ComponentLink1URL: http://www.we-online.de; Created by: Baojun Chen; Created Date: Dec.2015; ComponentLink2Description: Datasheet; ComponentLink2URL: http://katalog.we-online.de/em/datasheet/4301x6xxx7x6.pdf
footprint 4301x60707x6 (6*6mm vertical type, THT, height 7.0mm, white actuator, 260gf, Bulk)
pins: 1, 2

## YC248
designator R?  value 100
Сборка резисторов; Type: *; PartNo: *
footprint CAC-50P400X159-16N (Chip Array, ConvexS, 16-Leads, Pitch 0.50mm,  Body 4.00x1.60mm,  IPC Medium Density)
part A pins: 1, 16
part B pins: 2, 15
part C pins: 3, 14
part D pins: 4, 13
part E pins: 5, 12
part F pins: 6, 11
part G pins: 7, 10
part H pins: 8, 9

## Винт М2.5
designator MH?  (value not drawn)
Винт М2.5
footprint Винт М2.5
footprint Винт М2.5 v2 (Винт М2.5, внутренний 2.7, внешний 6.5мм)
footprint Винт М2.5 v3 (Винт М2.5, внутренний 2.7, внешний 7.5мм)

## ГеоС-3М
designator DA?
GPS Glonass module; PartNo: *
footprint ГеоС-3М (GPS - Glonass module)
pins: 1 GND, 2 ANT, 3 GND, 4 GND, 5 PD, 6 1PPS, 7 E_FRQ, 8 PD_ACK, 9 STATUS, 10 E_PPS, 11 RX1, 12 TX1, 13 RX0, 14 TX0, 15 BM0 hidden, 16 BM1 hidden, 17 GND, 18 GND, 19 ~{RESET}, 20 VDD, 21 VBAT, 22 ON/OFF, 23 VDDIO, 24 VANT

## ИПВ72А1-4/5х7К
designator LD?
Индикатор знакосинтезирующий; Производитель: ЗАО "Протон"
footprint ИПВ72А1-4/5х7К
pins: 1 Y1 (in), 2 Y2 (in), 3 Y3 (in), 4 Y4 (in), 5 Y5 (in), 6 CH (out) hidden, 7 DO (out), 8 EN (in), 9 Vcc (power), 10 C (in), 11 GND (power), 12 DI (in)

## ЛИА-8
designator G?  (value not drawn)
pins: 1, 2

## МДМ3-1И05ВУП
designator DA?
DC-DC преобразователь, 48В вх, 5В вых.
footprint МДМ3-У
pins: 2 -ВХ, 3 -ВХ, 4 Вкл, 14 +Вых, 15 Подстр, 16 -Вых, 22 +Вх, 23 +Вх

## МДМ160-1Е48ВП
designator DA?
DC-DC преобразователь, 3-36В вх, 48В вых.; PartNo: МДМ160-1Е48ВП
footprint МДМ160
pins: 1 Вкл, 2 -Вх, 3 +Вх, 4 Корп, 5 -Вых, 6 -Вых, 7 +Вых, 8 +Вых, 9 Подстр, 10 +ОС, 11 -ОС

## МДМ160-1Е48ВУП
designator DA?
DC-DC преобразователь, 3-36В вх, 48В вых.; PartNo: МДМ160-1Е48ВУП
footprint МДМ160-У
pins: 1 Вкл, 2 -Вх, 3 +Вх, 4 Корп, 5 -Вых, 6 -Вых, 7 +Вых, 8 +Вых, 9 Подстр, 10 +ОС, 11 -ОС

## МРМ3-Д10ДМУ
designator DA?
Фильтр 60 В, 10 А; PartNo: МРМ3-Д10ДМУ
footprint МРМ3-У
pins: 1 +Вх, 2 -Вх, 3 Корп, 4 +Вых, 5 -Вых

## МРМ3-Д10ДМУ БКЯЮ.468829.005 ТУ
designator DA?, comment МРМ3-Д10ДМУ
Фильтр 60 В, 10 А; PartNo: МРМ3-Д10ДМУ
footprint МРМ3-Х10ДМУ БКЯЮ.468829.005 ТУ (Фильтр помехоподавляющий)
pins: 1 +Вх, 2 -Вх, 3 Корп, 4 +Вых, 5 -Вых

## МРМ4-В20ДМУ
designator DA?
Фильтр 27 В, 20 А; PartNo: МРМ4-В20ДМУ
footprint МРМ4-У
pins: 1 +Вх, 2 -Вх, 3 Корп, 4 +Вых, 5 -Вых

## МРМ4-В20ДМУ_АЕДОН БКЯЮ.468829.005ТУ
designator DA?, comment МРМ4-В20ДМУ
Фильтр 27 В, 20 А; PartNo: МРМ4-В20ДМУ
footprint МРМ4-У-АЕДОН
pins: 1 +Вх, 2 -Вх, 3 Корп, 4 +Вых, 5 -Вых

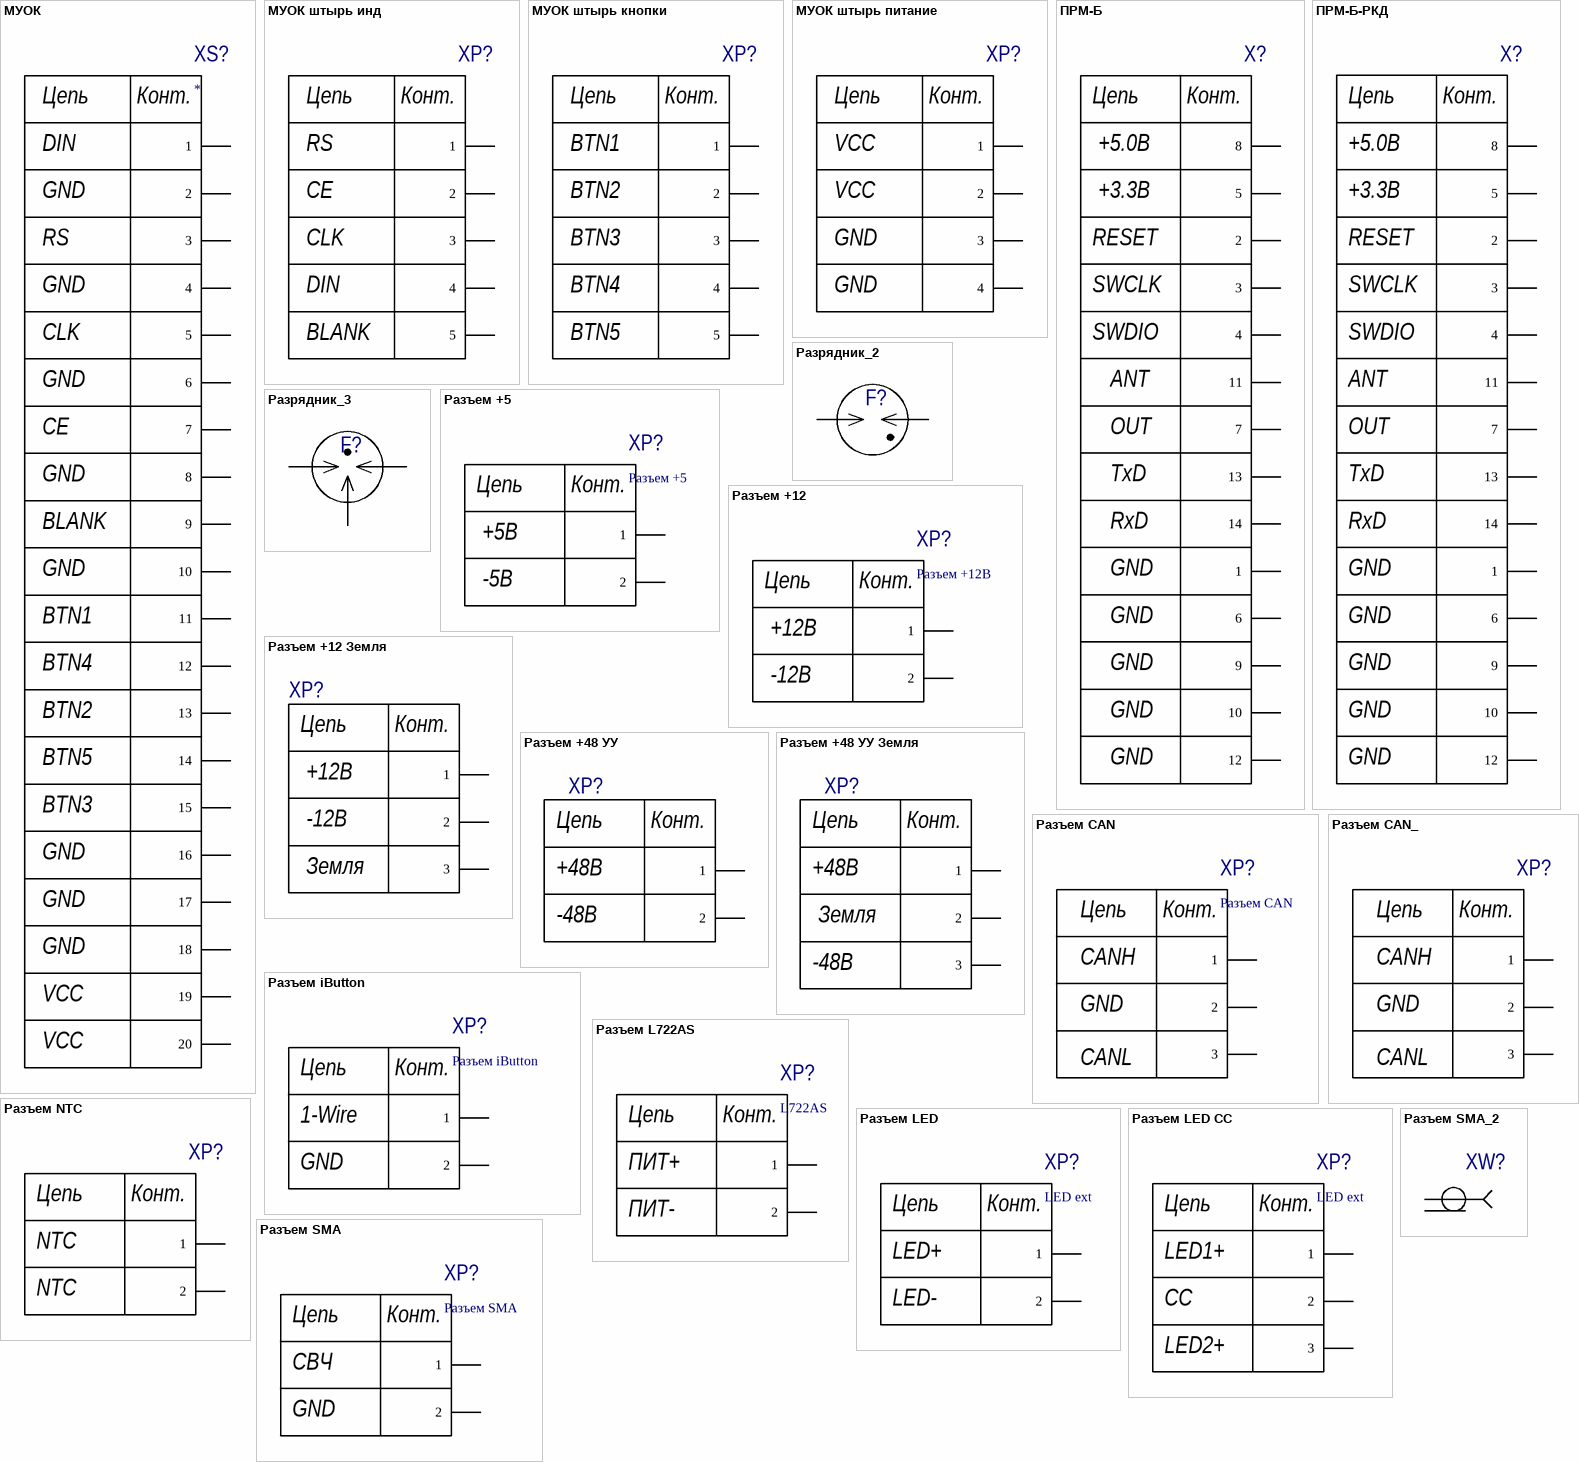
[diagram p14: symbols МУОК to Разъем SMA_2]

## МУОК
designator XS?
Разъем МУОК; PartNo: *
footprint PLD-20
footprint МУОК ответка
pins: 1, 2, 3, 4, 5, 6, 7, 8, 9, 10, 11, 12, 13, 14, 15, 16, 17, 18, 19, 20
text: Цепь; Конт.; DIN; GND; RS; CLK; CE; BLANK; BTN1; BTN4; BTN2; BTN5; BTN3; VCC

## МУОК штырь инд
designator XP?, comment Индикаторы МУОК  (value not drawn)
footprint AMPMODU Mod II 5 pin
pins: 1, 2, 3, 4, 5
text: Цепь; Конт.; RS; CE; CLK; DIN; BLANK

## МУОК штырь кнопки
designator XP?, comment Кнопки МУОК  (value not drawn)
footprint AMPMODU Mod II 5 pin
pins: 1, 2, 3, 4, 5
text: Цепь; Конт.; BTN1; BTN2; BTN3; BTN4; BTN5

## МУОК штырь питание
designator XP?, comment Питание МУОК  (value not drawn)
footprint AMPMODU Mod II 4 pin
pins: 1, 2, 3, 4
text: Цепь; Конт.; VCC; GND

## ПРМ-Б
designator X?  (value not drawn)
ПРМ-Б типа разъема
footprint ПРМ-Б
footprint ПРМ-Б-v2
pins: 1, 2, 3, 4, 5, 6, 7, 8, 9, 10, 11, 12, 13, 14
text: Цепь; Конт.; +5.0В; +3.3В; RESET; SWCLK; SWDIO; ANT; OUT; TxD; RxD; GND

## ПРМ-Б-РКД
designator X?  (value not drawn)  (no BOM)
ПРМ-Б типа разъема
footprint ПРМ-Б
footprint ПРМ-Б-v2
pins: 1, 2, 3, 4, 5, 6, 7, 8, 9, 10, 11, 12, 13, 14
1 alternate drawing of the same symbol
text: Цепь; Конт.; +5.0В; +3.3В; RESET; SWCLK; SWDIO; ANT; OUT; TxD; RxD; GND

## Разрядник_2
designator F?
Разрядник 2 электрода
pins: 1, 2

## Разрядник_3
designator F?
Разрядник 3 электрода
pins: 1, 2, 3

## Разъем +5
designator XP?
Разъем питания 5В
footprint Connector 5V (Контакты на плату турельные средние)
pins: 1, 2
text: Цепь; Конт.; +5В; -5В

## Разъем +12
designator XP?, comment Разъем +12В
Разъем питания 12В; Multiplier 1: 2; Supplier 1: Digi-Key; Supplier Part Number 1: *
footprint Connector 5V (Контакты на плату турельные средние)
pins: 1, 2
text: Цепь; Конт.; +12В; -12В

## Разъем +12 Земля
designator XP?, comment Разъем +12В  (value not drawn)
Разъем питания 12В; Multiplier 1: 3; Supplier 1: Digi-Key; Supplier Part Number 1: 36-1508-2-ND
footprint Connector 12V Земля (Контакты на плату турельные средние)
pins: 1, 2, 3
text: Цепь; Конт.; +12В; -12В; Земля

## Разъем +48 УУ
designator XP?  (value not drawn)
Разъем питания УУ; Multiplier 1: 2; Supplier 1: Digi-Key; Supplier Part Number 1: 36-1532-2-ND
footprint Connector 48V (Контакты на плату турельные)
pins: 1, 2
text: Цепь; Конт.; +48В; -48В

## Разъем +48 УУ Земля
designator XP?  (value not drawn)
Разъем питания УУ; Multiplier 1: 3; Supplier 1: Digi-Key; Supplier Part Number 1: 36-1532-2-ND
footprint Connector 48V Земля (Контакты на плату турельные)
pins: 1, 2, 3
text: Цепь; Конт.; +48В; Земля; -48В

## Разъем CAN
designator XP?
Multiplier 1: 3; Supplier 1: Digi-Key; Supplier Part Number 1: 36-1528-2-ND
footprint Connector CAN (Контакты для CAN)
pins: 1, 2, 3
text: Цепь; Конт.; CANH; GND; CANL

## Разъем CAN_
designator XP?
Разъем CAN; PartNo: *
footprint Connector CAN (Контакты для CAN)
pins: 1, 2, 3
text: Цепь; Конт.; CANH; GND; CANL

## Разъем iButton
designator XP?
Multiplier 1: 2; Supplier 1: Digi-Key; Supplier Part Number 1: 36-1528-2-ND
footprint Connector iButton (Контакты для iButton)
pins: 1, 2
text: Цепь; Конт.; 1-Wire; GND

## Разъем L722AS
designator XP?, comment L722AS
Контактные площадки разъема L722AS
footprint 2Pin_МГТФ-0.5 (Силовой вывод под 2 МГТФ 0.5)
footprint 2Pin_МГТФ-0.5ver2 (Силовой вывод под 2 МГТФ 0.5)
footprint 2Pin_МГТФ-0.5ver3 (Силовой вывод под 2 МГТФ 0.5 на Шпенек)
pins: 1, 2
text: Цепь; Конт.; ПИТ+; ПИТ-

## Разъем LED
designator XP?, comment LED ext
Светодиод на панель; Type: MUC-20PFFR-JS8C01
footprint Connector LED (Контакты для светодиодов)
pins: 1, 2
text: Цепь; Конт.; LED+; LED-

## Разъем LED CC
designator XP?, comment LED ext
Светодиод на панель 2 цвета; Multiplier 1: 3; Supplier 1: Digi-Key; Supplier Part Number 1: 36-1528-2-ND
footprint Connector LED Dual (Контакты для светодиодов)
pins: 1, 2, 3
text: Цепь; Конт.; LED1+; CC; LED2+

## Разъем NTC
designator XP?, comment NTC  (value not drawn)
Контактные площадки терморезистора
footprint 2Pin_NTC (Выводы терморезистора)
footprint 2Pin_NTC - ver2 (Выводы терморезистора)
footprint 2Pin_NTC - ver3 (Выводы терморезистора На шпенек)
footprint 2Pin_NTC - ver4 (Выводы терморезистора На шпенек)
pins: 1, 2
text: Цепь; Конт.

## Разъем SMA
designator XP?
Разъем SMA герметичный; Supplier 1: Digi-Key; Supplier Part Number 1: *
footprint SMA_Herm (SMA герметичный на плату)
pins: 1, 2
text: Цепь; Конт.; СВЧ; GND

## Разъем SMA_2
designator XW?, comment Molex 0732511150  (value not drawn)
Разъем SMA, микрополосок
footprint SMA - 0732511150
pins: 1, 2
1 alternate drawing of the same symbol

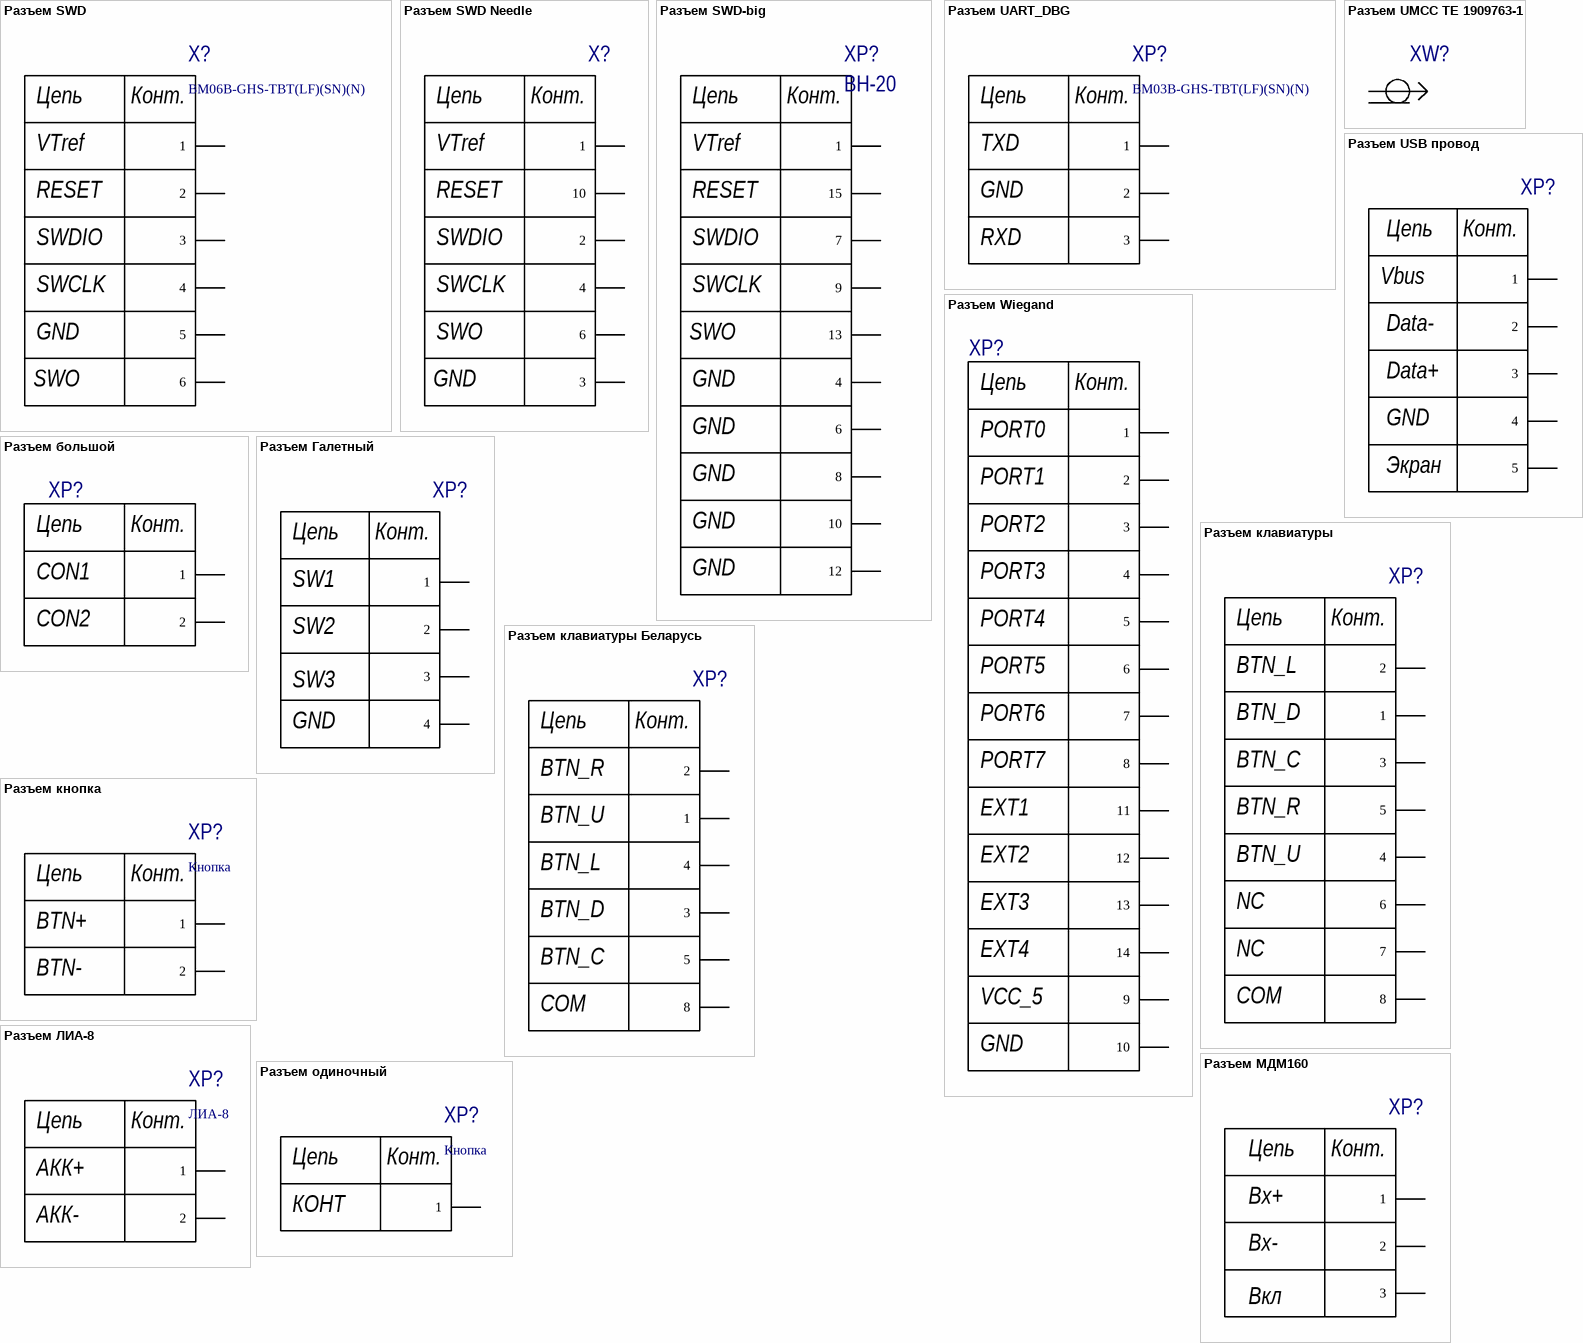
[diagram p15: symbols Разъем SWD to Разъем одиночный]

## Разъем SWD
designator X?, comment BM06B-GHS-TBT(LF)(SN)(N)
SWD отладка; PartNo: BM06B-GHS-TBT(LF)(SN)(N); Supplier 1: Digi-Key; Supplier Part Number 1: 455-1582-1-ND
footprint BM06B-GH
pins: 1, 2, 3, 4, 5, 6
text: Цепь; Конт.; VTref; RESET; SWDIO; SWCLK; GND; SWO

## Разъем SWD Needle
designator X?  (no BOM)
SWD отладка
footprint J-Link Needle 10 pin
pins: 1, 2, 3, 4, 6, 10
text: Цепь; Конт.; VTref; RESET; SWDIO; SWCLK; SWO; GND

## Разъем SWD-big
designator XP?, comment BH-20
SWD отладка; PartNo: BH-20; Supplier 1: Digi-Key
footprint IDC-20 (2.54 мм разъем)
footprint IDC-20 Right angle (2.54 мм разъем правый)
pins: 1, 4, 6, 7, 8, 9, 10, 12, 13, 15
text: Цепь; Конт.; VTref; RESET; SWDIO; SWCLK; SWO; GND

## Разъем UART_DBG
designator XP?, comment BM03B-GHS-TBT(LF)(SN)(N)
UART отладка; PartNo: BM03B-GHS-TBT(LF)(SN)(N); Supplier Part Number 1: 455-1579-1-ND; Supplier 1: Digi-Key
footprint BM03B-GH
pins: 1, 2, 3
text: Цепь; Конт.; TXD; GND; RXD

## Разъем UMCC TE 1909763-1
designator XW?, comment TE 1909763-1  (value not drawn)
Разъем UMCC, микрополосок
footprint UMCC TE 1909763-1
pins: 1, 2
1 alternate drawing of the same symbol

## Разъем USB провод
designator XP?  (value not drawn)
footprint USB Кабель
pins: 1, 2, 3, 4, 5
text: Цепь; Конт.; Vbus; Data-; Data+; GND; Экран

## Разъем Wiegand
designator XP?
Разъем Wiegand; PartNo: *
footprint PBD-2x7
pins: 1, 2, 3, 4, 5, 6, 7, 8, 9, 10, 11, 12, 13, 14
text: Цепь; Конт.; PORT0; PORT1; PORT2; PORT3; PORT4; PORT5; PORT6; PORT7; EXT1; EXT2; EXT3; EXT4; VCC_5; GND

## Разъем большой
designator XP?  (value not drawn)
Разъем питания; Multiplier 1: 2; Supplier 1: Digi-Key; Supplier Part Number 1: 36-1532-2-ND
footprint Connector 48V (Контакты на плату турельные)
pins: 1, 2
text: Цепь; Конт.; CON1; CON2

## Разъем Галетный
designator XP?
Переключатель галетный; PartNo: *
pins: 1, 2, 3, 4
text: Цепь; Конт.; SW1; SW2; SW3; GND

## Разъем клавиатуры
designator XP?  (value not drawn)
footprint TE-0-84952-8 (FPC Connector, 1.0mm pitch, Bottom contact, 8 pins)
footprint TE-0-84953-8 (FPC Connector, 1.0mm pitch, Top contact, 8 pins)
footprint TE-0-1734592-8 (FPC Connector, 0.5mm pitch, Bottom contact, 8 pins)
footprint TE-0-1734839-8 (FPC Connector, 0.5mm pitch, Top contact, 8 pins)
footprint TE-0-84952-8 reverse (FPC Connector, 1.0mm pitch, Bottom contact, 8 pins)
pins: 1, 2, 3, 4, 5, 6, 7, 8
text: Цепь; Конт.; BTN_L; BTN_D; BTN_C; BTN_R; BTN_U; NC; COM

## Разъем клавиатуры Беларусь
designator XP?  (value not drawn)
Manufacturer: TE Connectivity; Manufacturer Part Number: 84953-8; Body Plating: Tin; Current Rating: 1A; Voltage Rating: 200V; Gender: Female; Number of Positions: 8; Contact Location: Top; Connector Type: Connector,Receptacle,Socket; Wire/Cable Type: Flat Flex; Connector System: Flex-to-Board; Plating Thickness: 2um; Mating Alignment: Yes (With); PCB Mount Alignment: No (Without); PCB Mount Retention: With; PCB Mounting Orientation: Right Angle; Shielding: Unshielded; Pitch: 0.039inch; Supplier 1: Digi-Key; Stock 1: 14860; Pricing 1: 1=1.17, 10=1.031, 25=0.97, 50=0.9296, 100=0.8891, 250=0.8083, 500=0.7275 (USD); Mount: Surface Mount; Material: Thermoplastic; Contact Material: Bronze; Contact Plating: Bright,Tin; Color: Natural; Housing Color: Natural; Housing Material: Polymer; Min Operating Temperature: -40°C; Max Operating Temperature: 85°C; Package Quantity: 1500; Termination: SMD/SMT; Packaging: Tape and Reel; Number of Rows: 1; Number of Contacts: 8; Orientation: Right Angle; Sealable: No (Without); Shrouded: Yes (With); Contact Current Rating: 1A; Length: 0.6268inch; Height: 2.56mm; Lead Pitch: 1mm; Width: 0.2575inch; Depth: 2.56mm; Radiation Hardening: No; REACH SVHC: No SVHC; Flammability Rating: UL94 V-0; ComponentLink1URL: https://www.te.com/commerce/DocumentDelivery/DDEController?Action=srchrtrv&DocNm=84953&DocType=Customer+Drawing&DocLang=English&src-supplier=Digi-Key; ComponentLink1Description: https://www.te.com/commerce/DocumentDelivery/DDEController?Action=srchrtrv&DocNm=84953&DocType=Customer+Drawing&DocLang=English&src-supplier=Digi-Key; ComponentLink2URL: http://www.te.com/commerce/DocumentDelivery/DDEController?Action=srchrtrv&DocNm=1-1773440-6&DocType=Data+Sheet&DocLang=English&src-supplier=Avnet+Europe; ComponentLink2Description: http://www.te.com/commerce/DocumentDelivery/DDEController?Action=srchrtrv&DocNm=1-1773440-6&DocType=Data+Sheet&DocLang=English&src-supplier=Avnet+Europe; ComponentLink3URL: http://www.tycoelectronics.com/commerce/DocumentDelivery/DDEController?Action=srchrtrv&DocNm=1-1773440-6&DocType=Data+Sheet&DocLang=English&src-supplier=Farnell; ComponentLink3Description: http://www.tycoelectronics.com/commerce/DocumentDelivery/DDEController?Action=srchrtrv&DocNm=1-1773440-6&DocType=Data+Sheet&DocLang=English&src-supplier=Farnell; ComponentLink4URL: https://www.verical.com/server-webapp/html/getDatasheet?partID=473787&src-supplier=Verical; ComponentLink4Description: https://www.verical.com/server-webapp/html/getDatasheet?partID=473787&src-supplier=Verical; ComponentLink5URL: http://www.farnell.com/datasheets/586796.pdf?src-supplier=Element14; ComponentLink5Description: http://www.farnell.com/datasheets/586796.pdf?src-supplier=Element14; ComponentLink6URL: http://www.onlinecomponents.com/productFiles/mf-AMP/eng_ds_1-1773440-6_0506.pdf?src-supplier=Onlinecomponents.com; ComponentLink6Description: http://www.onlinecomponents.com/productFiles/mf-AMP/eng_ds_1-1773440-6_0506.pdf?src-supplier=Onlinecomponents.com; ComponentLink7URL: http://www.te.com/commerce/DocumentDelivery/DDEController?Action=srchrtrv&DocNm=1-1773440-6&DocType=Data+Sheet&DocLang=English&src-supplier=Avnet; ComponentLink7Description: http://www.te.com/commerce/DocumentDelivery/DDEController?Action=srchrtrv&DocNm=1-1773440-6&DocType=Data+Sheet&DocLang=English&src-supplier=Avnet; Supplier Part Number 1: A100257CT-ND
footprint TE-0-84952-8 reverse (FPC Connector, 1.0mm pitch, Bottom contact, 8 pins)
pins: 1, 2, 3, 4, 5, 8
text: Цепь; Конт.; BTN_R; BTN_U; BTN_L; BTN_D; BTN_C; COM

## Разъем кнопка
designator XP?, comment Кнопка
Кнопка включения; Multiplier 1: 2; Supplier 1: Digi-Key; Supplier Part Number 1: 36-1528-2-ND
footprint Connector Button (Контакты для кнопки)
pins: 1, 2
text: Цепь; Конт.; BTN+; BTN-

## Разъем ЛИА-8
designator XP?, comment ЛИА-8
Контактные площадки аккумулятора ЛИА-8
footprint 2Pin_ЛИА-8 (Силовой вывод под аккумулятор ЛИА-8)
footprint 2Pin_МГТФ-0.5ver2 (Силовой вывод под 2 МГТФ 0.5)
footprint 2Pin_МГТФ-0.5ver3 (Силовой вывод под 2 МГТФ 0.5 на Шпенек)
pins: 1, 2
text: Цепь; Конт.; АКК+; АКК-

## Разъем МДМ160
designator XP?
Разъем МДМ160; PartNo: *
pins: 1, 2, 3
text: Цепь; Конт.; Вх+; Вх-; Вкл

## Разъем одиночный
designator XP?, comment Кнопка
Разъем одиночный
footprint Keystone-1508-2 (Средний)
footprint Keystone-1528-2 (Самый тонкий)
footprint Keystone-1532-2 (Самый толстый)
pins: 1
text: Цепь; Конт.; КОНТ

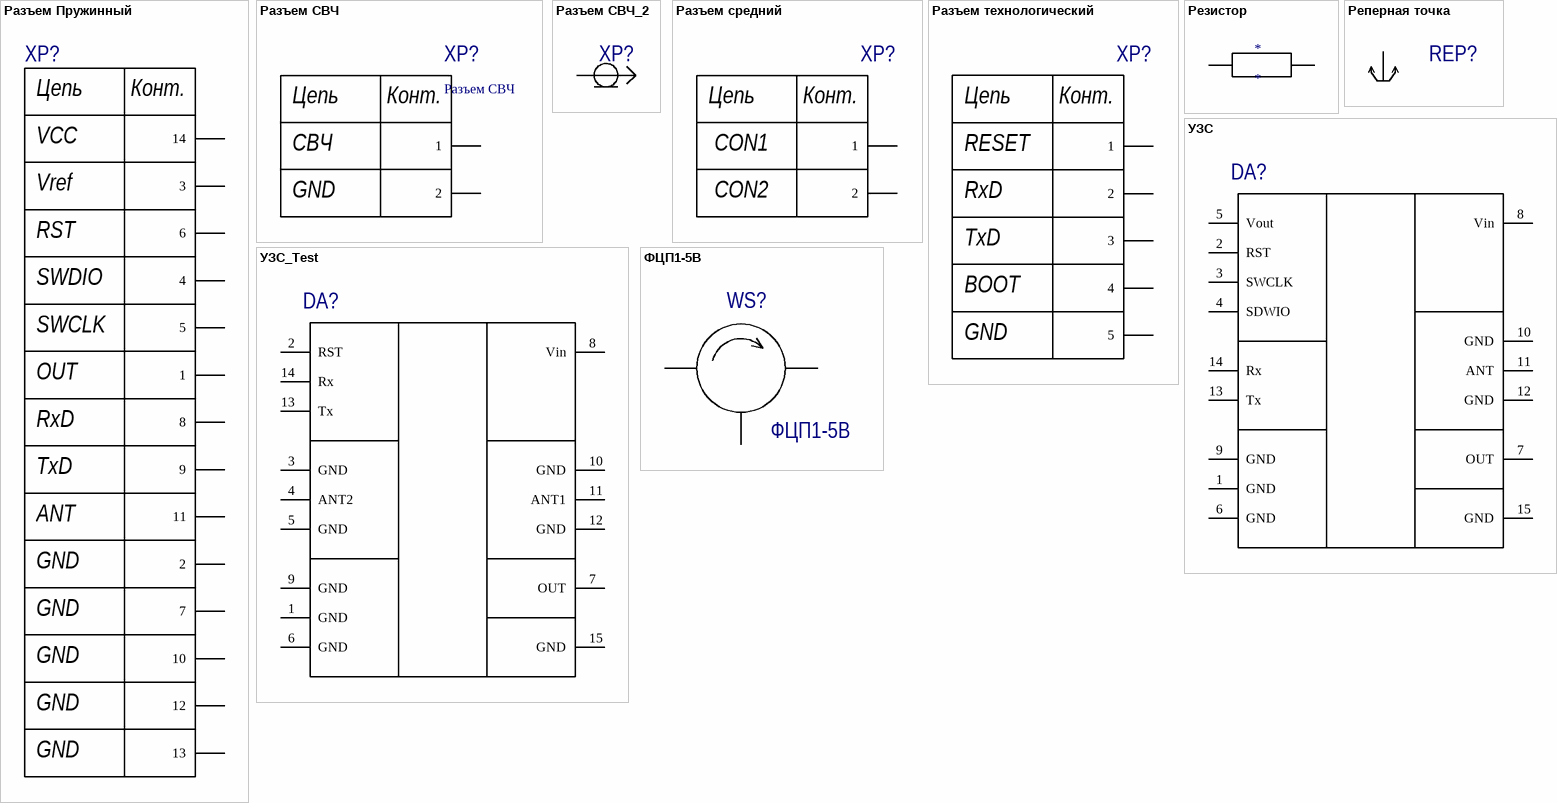
[diagram p16: symbols Разъем Пружинный to ФЦП1-5В]

## Разъем Пружинный
designator XP?  (value not drawn)
footprint PRMB-spring
pins: 1, 2, 3, 4, 5, 6, 7, 8, 9, 10, 11, 12, 13, 14
text: Цепь; Конт.; VCC; Vref; RST; SWDIO; SWCLK; OUT; RxD; TxD; ANT; GND

## Разъем СВЧ
designator XP?
Разъем СВЧ, микрополосок
footprint Microsprip
footprint Microsprip 0.2/0.4
pins: 1, 2
text: Цепь; Конт.; СВЧ; GND

## Разъем СВЧ_2
designator XP?, comment Разъем СВЧ  (value not drawn)
Разъем СВЧ, микрополосок
footprint Microstrip_2 (Просто точка на плате)
footprint MMCX-50-0-1/111 (Huber Suhner MMCX female, Vertical)
pins: 1

## Разъем средний
designator XP?  (value not drawn)
Разъем питания; Multiplier 1: 2; Supplier 1: Digi-Key; Supplier Part Number 1: *
footprint Connector 5V (Контакты на плату турельные средние)
pins: 1, 2
text: Цепь; Конт.; CON1; CON2

## Разъем технологический
designator XP?
Разъем технологический; PartNo: *
footprint Connector Supervisor (Контакты для технологического разъема)
pins: 1, 2, 3, 4, 5
text: Цепь; Конт.; RESET; RxD; TxD; BOOT; GND

## Резистор
designator *
pins: 1, 2

## Реперная точка
designator REP?  (value not drawn)  (no BOM)
footprint Reper (Опорная точка)
pins: R0 IO

## УЗС
designator DA?  (value not drawn)
footprint УЗС (Корпус УЗС)
pins: 1 GND, 2 RST, 3 SWCLK, 4 SDWIO, 5 Vout, 6 GND, 7 OUT, 8 Vin, 9 GND, 10 GND, 11 ANT, 12 GND, 13 Tx, 14 Rx, 15 GND

## УЗС_Test
designator DA?  (value not drawn)
footprint PRMB_v1 (Корпус УЗС Тестовый)
footprint PRMB_v2 (Корпус УЗС Тестовый)
footprint PRMB_v3 (Корпус УЗС Тестовый)
footprint PRMB_v4 (Корпус УЗС Тестовый)
pins: 1 GND, 2 RST, 3 GND, 4 ANT2, 5 GND, 6 GND, 7 OUT, 8 Vin, 9 GND, 10 GND, 11 ANT1, 12 GND, 13 Tx, 14 Rx, 15 GND

## ФЦП1-5В
designator WS?
Циркулятор
footprint ФЦП1-5В (Циркулфтор ФЦП1-5В)
pins: 1, 2, 3